# Altium footprint library Sparkfun.PcbLib: 1 footprints
Each footprint in its own frame and in the unit in brackets; x right, y up, seen from the top. Pads: shape width x height; smd on the part's side, far side on the other; paste and mask are expansions set on the pad; w line width, h text height; cw(c..) or ccw(c..) is an arc to the next point about the centre after c.
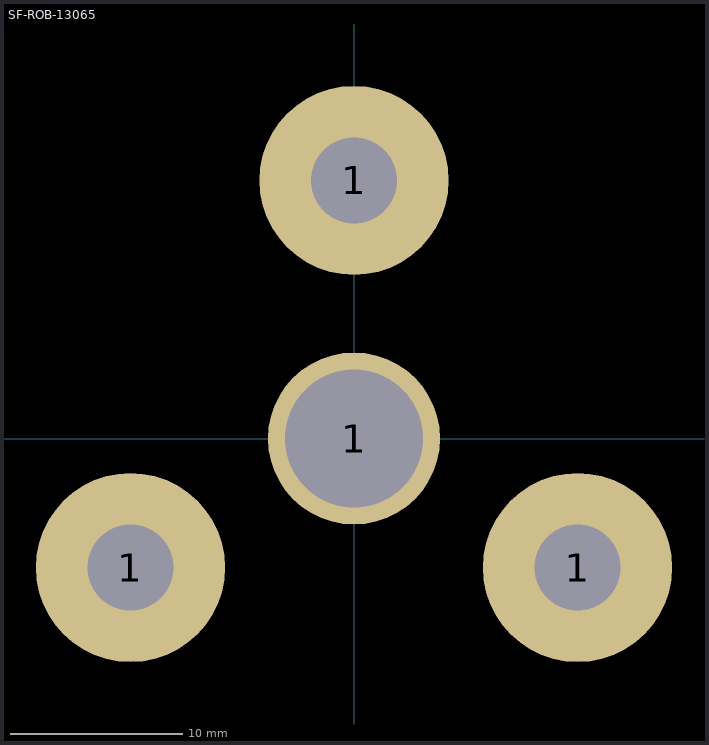
[diagram p0: the footprint, top view; thin cyan lines are the x and y axes]

## SF-ROB-13065 [mm] "SLIP RING - 12 WIRE (2A)"
pads (4):
  round 11 hole 5: 1(-12.99,-7.5) 1(0,15) 1(12.99,-7.5)
  round 10 hole 8: 1(0,0)
3D body "slipringwithencoder.STEP": height 60.4, standoff -5.41, extent -25.294,-25.294 25.294,39.074